# Altium footprint library 0734151061.PcbLib: 1 footprints
Each footprint in its own frame and in the unit in brackets; x right, y up, seen from the top. Pads: shape width x height; smd on the part's side, far side on the other; paste and mask are expansions set on the pad; w line width, h text height; cw(c..) or ccw(c..) is an arc to the next point about the centre after c.
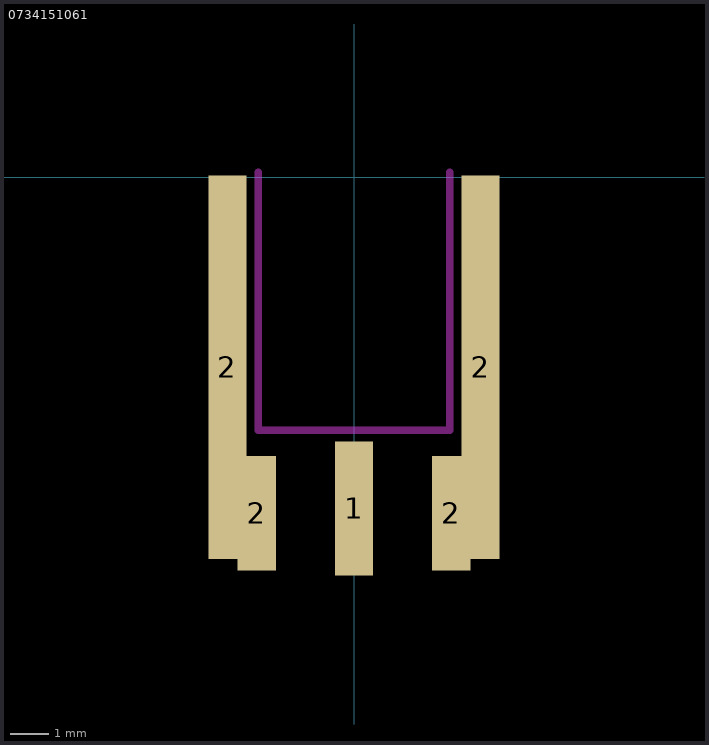
[diagram p0: the footprint, top view; thin cyan lines are the x and y axes]

## 0734151061 [mm]
pads (5):
  rect 1x3.5 smd: 1(0,-8.636)
  rect 1x10 smd: 2(-3.302,-4.953) 2(3.302,-4.953)
  rect 1x3 smd: 2(-2.54,-8.763) 2(2.54,-8.763)
Keep-Out Layer:
  lines w0.2: -2.5,0.127 -2.5,-6.6 2.5,-6.6 2.5,0.127
3D body: height 2.89, standoff -2.11, extent -3.353,-9.525 3.352,0